# Altium schematic symbol library MOLEX.SchLib: 13 symbols
Pins are listed as number, name and electrical type; pins without a type are passive.

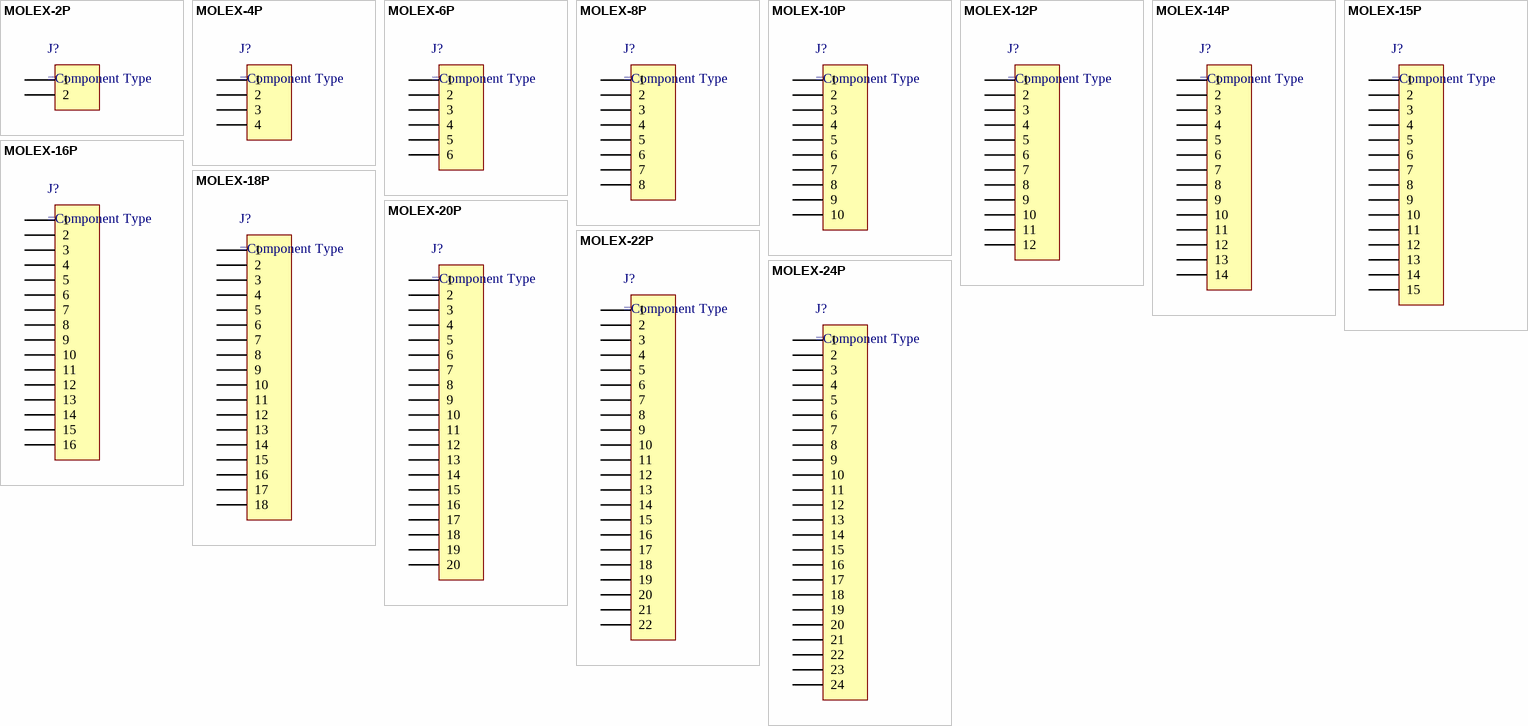
[diagram p0: symbols MOLEX-2P to MOLEX-24P]

## MOLEX-2P
designator J?
pins: 1, 2

## MOLEX-4P
designator J?
pins: 1, 2, 3, 4

## MOLEX-6P
designator J?
pins: 1, 2, 3, 4, 5, 6

## MOLEX-8P
designator J?
pins: 1, 2, 3, 4, 5, 6, 7, 8

## MOLEX-10P
designator J?
pins: 1, 2, 3, 4, 5, 6, 7, 8, 9, 10

## MOLEX-12P
designator J?
pins: 1, 2, 3, 4, 5, 6, 7, 8, 9, 10, 11, 12

## MOLEX-14P
designator J?
pins: 1, 2, 3, 4, 5, 6, 7, 8, 9, 10, 11, 12, 13, 14

## MOLEX-15P
designator J?
pins: 1, 2, 3, 4, 5, 6, 7, 8, 9, 10, 11, 12, 13, 14, 15

## MOLEX-16P
designator J?
pins: 1, 2, 3, 4, 5, 6, 7, 8, 9, 10, 11, 12, 13, 14, 15, 16

## MOLEX-18P
designator J?
pins: 1, 2, 3, 4, 5, 6, 7, 8, 9, 10, 11, 12, 13, 14, 15, 16, 17, 18

## MOLEX-20P
designator J?
pins: 1, 2, 3, 4, 5, 6, 7, 8, 9, 10, 11, 12, 13, 14, 15, 16, 17, 18, 19, 20

## MOLEX-22P
designator J?
pins: 1, 2, 3, 4, 5, 6, 7, 8, 9, 10, 11, 12, 13, 14, 15, 16, 17, 18, 19, 20, 21, 22

## MOLEX-24P
designator J?
pins: 1, 2, 3, 4, 5, 6, 7, 8, 9, 10, 11, 12, 13, 14, 15, 16, 17, 18, 19, 20, 21, 22, 23, 24